# Altium integrated library BSP250.IntLib: 2 symbols
Pins are listed as number, name and electrical type; pins without a type are passive.

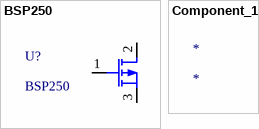
[diagram p0: symbols BSP250 to Component_1]

## BSP250
designator U?
No Description Available; Mfr_Name: Nexperia; Copyright: Copyright (C) 2022 Ultra Librarian. All rights reserved.; Manufacturer_Part_Number: BSP250; RefDes: RefDes; Type: DEV
footprint SOT223_NEX
pins: 1 GATE, 2 DRAIN, 3 SOURCE

## Component_1
designator *